# Altium footprint library LSSOP-20.PcbLib: 1 footprints
Each footprint in its own frame and in the unit in brackets; x right, y up, seen from the top. Pads: shape width x height; smd on the part's side, far side on the other; paste and mask are expansions set on the pad; w line width, h text height; cw(c..) or ccw(c..) is an arc to the next point about the centre after c.
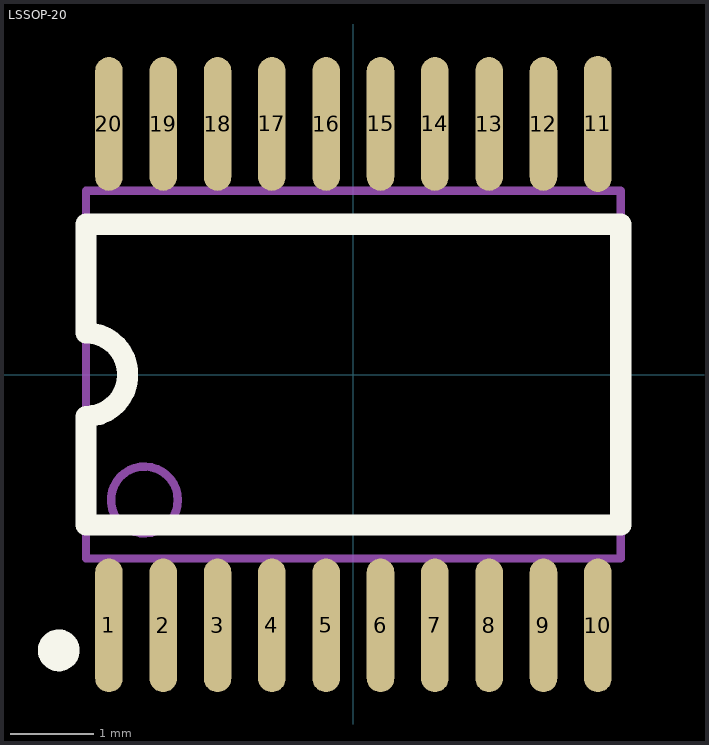
[diagram p0: the footprint, top view; thin cyan lines are the x and y axes]

## LSSOP-20 [mm]
pads (20):
  oval 0.33x1.6 smd: 1(-2.925,-3) 2(-2.275,-3) 3(-1.625,-3) 4(-0.975,-3) 5(-0.325,-3) 6(0.325,-3) 7(0.975,-3) 8(1.625,-3) 9(2.275,-3) 10(2.925,-3) 12(2.275,3) 13(1.625,3) 14(0.975,3) 15(0.325,3) 16(-0.325,3) 17(-0.975,3) 18(-1.625,3) 19(-2.275,3) 20(-2.925,3)
  oval 0.33x1.63 smd: 11(2.925,3)
Top Overlay:
  circle w0.25: c-3.525,-3.3 r0.125
  lines w0.254: -3.2,-1.8 3.2,-1.8 3.2,1.8 -3.2,1.8 -3.2,0.5 cw(c-3.2,0) -3.2,-0.5 -3.2,-1.8
Mechanical 13:
  circle w0.1: c-2.5,-1.5 r0.4
  lines w0.1: -3.2,-2.2 3.2,-2.2 3.2,2.2 -3.2,2.2 -3.2,-2.2